# Altium schematic symbol library Voltage Regulators Switchmode.SchLib: 5 symbols
Pins are listed as number, name and electrical type; pins without a type are passive.

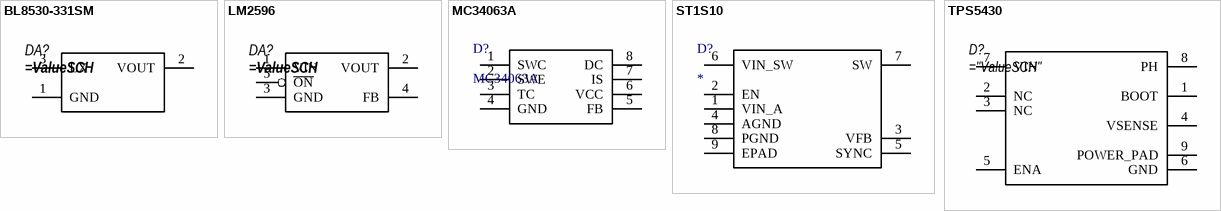
[diagram p0: symbols BL8530-331SM to TPS5430]

## BL8530-331SM
designator DA?
pins: 1 GND, 2 VOUT, 3 LX

## LM2596
designator DA?
pins: 1 VIN, 2 VOUT, 3 GND, 4 FB, 5 ~{ON}

## MC34063A
designator D?
footprint SOIC-8 NB (SOIC, 8-Leads, Body 4,90x3,90mm, Pitch 1,27mm, IPC Medium Density)
pins: 1 SWC, 2 SWE, 3 TC, 4 GND, 5 FB, 6 VCC, 7 IS, 8 DC

## ST1S10
designator D?
pins: 1 VIN_A, 2 EN, 3 VFB, 4 AGND, 5 SYNC, 6 VIN_SW, 7 SW, 8 PGND, 9 EPAD

## TPS5430
designator D?
pins: 1 BOOT, 2 NC, 3 NC, 4 VSENSE, 5 ENA, 6 GND, 7 VIN, 8 PH, 9 POWER_PAD